# EAGLE library part 6PIN_STRAIGHT_MALE_HEADERS (library Connectors)
Single-row, 6-pin Pin Header (Male) Straight, 2.54 mm (0.10 in) col pitch, 5.84 mm mating length, 15.24 X 5.08 X 8.38 mm body Single-row (1X6), 6-pin Pin Header (Male) Straight package with 2.54 mm (0.10 in) col pitch, 0.64 mm lead width, 3.00 mm tail length and 5.84 mm mating length with overall size 15.24 X 5.08 X 8.38 mm, pin pattern - clockwise from top left
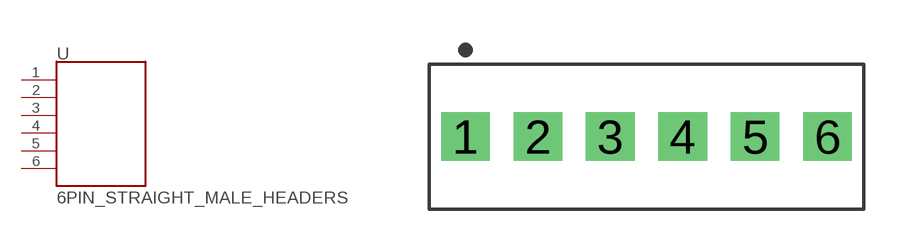
[diagram p0: symbol with the pads of HDRV6W64P254_1X6_1524X508X838B; footprint HDRV6W64P254_1X6_1524X508X838B]

Designator prefix -

## 6PIN_STRAIGHT_MALE_HEADERS  [HDRV6W64P254_1X6_1524X508X838B]
1  1
2  2
3  3
4  4
5  5
6  6

## Footprint HDRV6W64P254_1X6_1524X508X838B (pad centres in mm)
Single-row, 6-pin Pin Header (Male) Straight, 2.54 mm (0.10 in) col pitch, 5.84 mm mating length, 15.24 X 5.08 X 8.38 mm body Single-row (1X6), 6-pin Pin Header (Male) Straight package with 2.54 mm (0.10 in) col pitch, 0.64 mm lead width, 3.00 mm tail length and 5.84 mm mating length with overall size 15.24 X 5.08 X 8.38 mm, pin pattern - clockwise from top left
drill 1.105 pad 1.705 square: 1 0,0; 2 2.54,0; 3 5.08,0; 4 7.62,0; 5 10.16,0; 6 12.7,0